# Altium integrated library X49SM4MSD2SC.IntLib: 1 symbol
Pins are listed as number, name and electrical type; pins without a type are passive.

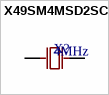
[diagram p0: symbol X49SM4MSD2SC]

## X49SM4MSD2SC
designator X?  value 4MHz  (hidden comment: X49SM4MSD2SC)
Crystals. -20C~+70C 120ohm 20pF 4MHz Crystal Oscillator +/-20ppm +/-30ppm HC-49S-SMD Crystals ROHS; Manufacturer: YXC Crystal Oscillators; Component Type: Crystal Oscillators; Design Item ID: X49SM4MSD2SC; JLCPCB Part #: C13774; Manufacturer Part Number: X49SM4MSD2SC
footprint X49SM4MSD2SC (HC-49S_L11.4-W4.5-LS12.5)
pins: 1 OSC1, 2 OSC2